# EAGLE library part ADAFRUIT661_128X32OLED (library teelsys-0.2)
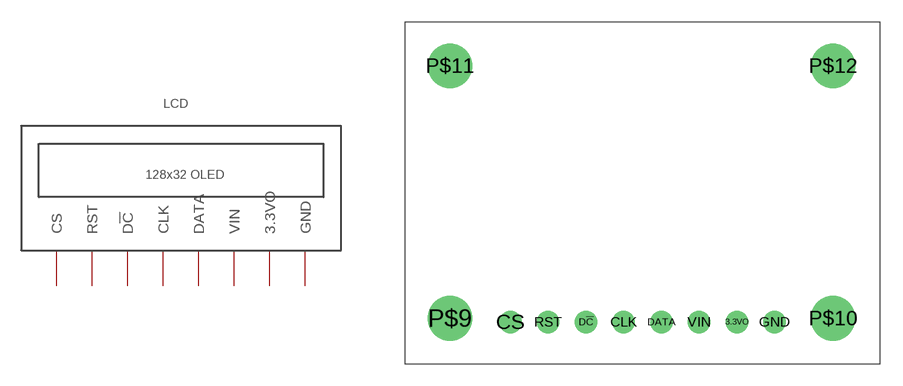
[diagram p5: symbol with the pads of ADAFRUIT661_128X32OLED; footprint ADAFRUIT661_128X32OLED]

Designator prefix LCD

## ADAFRUIT661_128X32OLED  [ADAFRUIT661_128X32OLED]
3.3VO  3.3VO
CLK  CLK
CS  CS
D!C!  D!C!
DATA  DATA
GND  GND
RST  RST
VIN  VIN

## Footprint ADAFRUIT661_128X32OLED (pad centres in mm)
drill 1: 3.3VO 22.352,2.794; CLK 14.732,2.794; CS 7.112,2.794; D!C! 12.192,2.794; DATA 17.272,2.794; GND 24.892,2.794; RST 9.652,2.794; VIN 19.812,2.794
drill 2: P$9 3.048,3.048; P$10 28.829,3.048; P$11 3.048,20.066; P$12 28.829,20.066